# Altium footprint library DIOM7959X262N.PcbLib: 1 footprints
Each footprint in its own frame and in the unit in brackets; x right, y up, seen from the top. Pads: shape width x height; smd on the part's side, far side on the other; paste and mask are expansions set on the pad; w line width, h text height; cw(c..) or ccw(c..) is an arc to the next point about the centre after c.
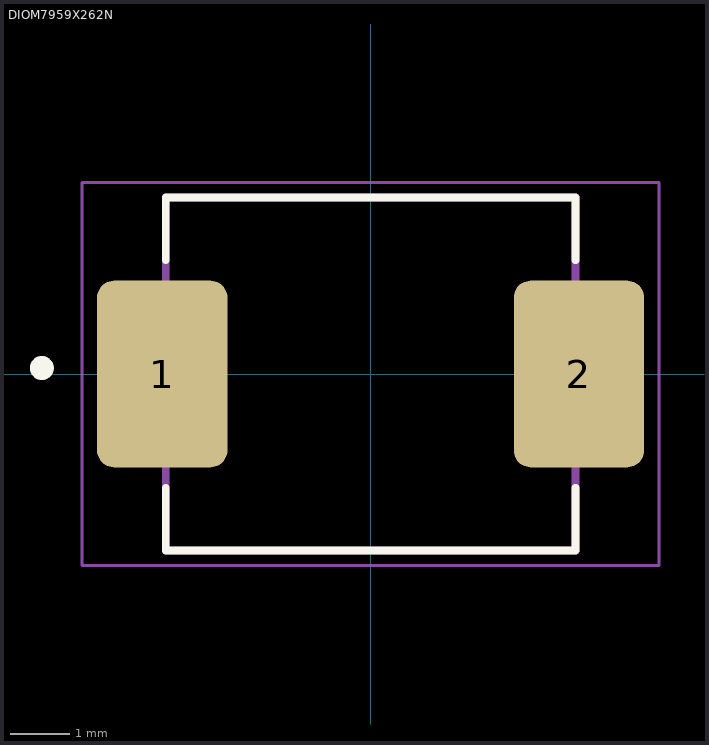
[diagram p0: the footprint, top view; thin cyan lines are the x and y axes]

## DIOM7959X262N [mm]
pads (2):
  rrect25% 2.18x3.12 smd: 1(-3.485,0) 2(3.485,0)
Top Overlay:
  circle w0.2: c-5.5,0.1 r0.1
  lines w0.127: -3.427,-1.9 -3.427,-2.953 3.427,-2.953 3.427,-1.9 ; -3.427,1.9 -3.427,2.953 3.427,2.953 3.427,1.9
Mechanical 13:
  circle w0.2: c-5.5,0.1 r0.1
  lines w0.127: -3.427,-2.953 -3.427,2.953 3.427,2.953 3.427,-2.953 -3.427,-2.953
Mechanical 15:
  lines w0.05: -4.825,-3.203 -4.825,3.203 4.825,3.203 4.825,-3.203 -4.825,-3.203